# Altium footprint library STM32_Smart.PcbLib: 23 footprints (part 2 of 2)
Each footprint in its own frame and in the unit in brackets; x right, y up, seen from the top. Pads: shape width x height; smd on the part's side, far side on the other; paste and mask are expansions set on the pad; w line width, h text height; cw(c..) or ccw(c..) is an arc to the next point about the centre after c.
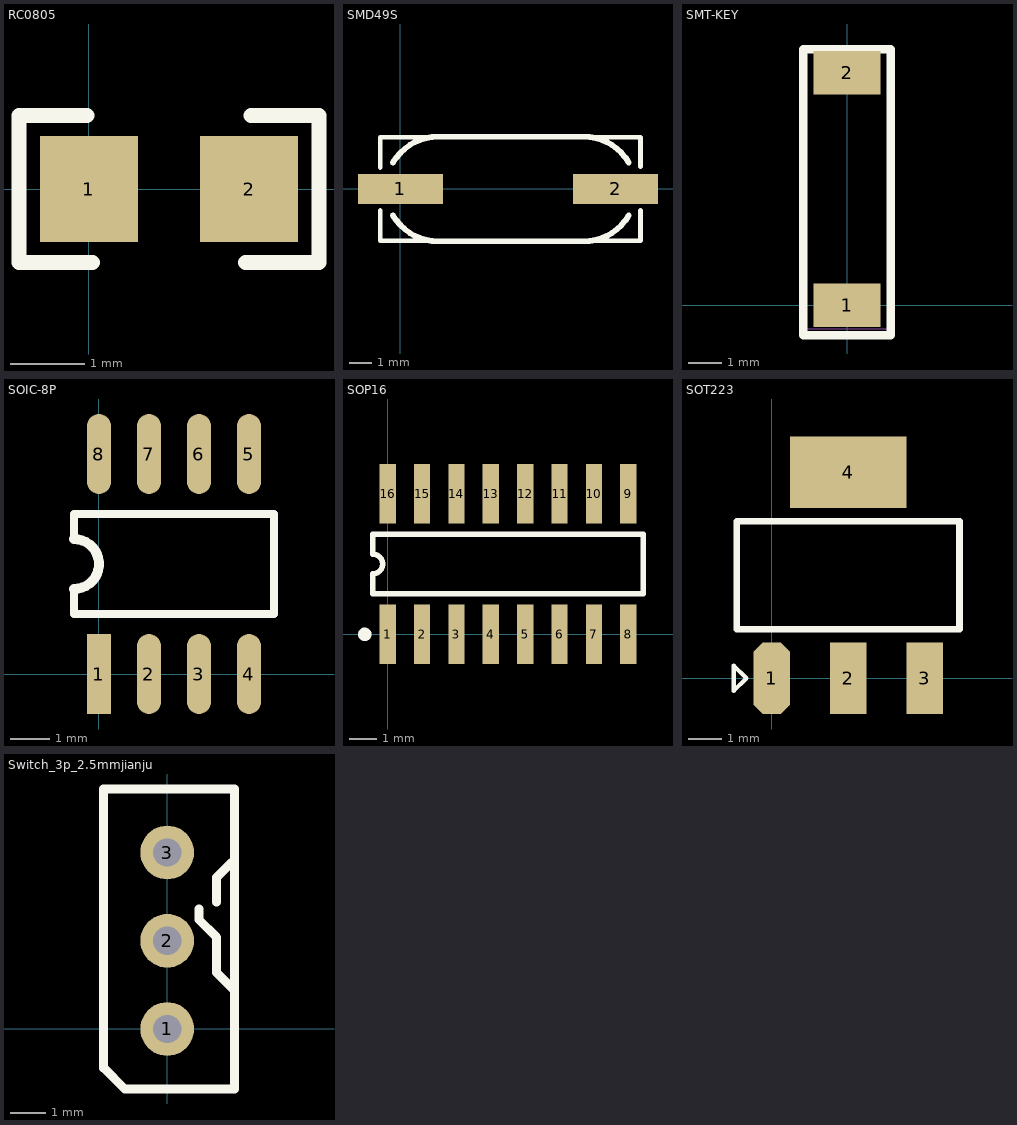
[diagram p1: the footprints below, top view; thin cyan lines are the x and y axes]

## RC0805 [mil]
pads (2):
  rect 52x56 smd: 1(0,0) 2(85,0)
Top Overlay:
  lines w8: -1,39 -37,39 -37,-39 2,-39 ; 83,-39 122,-39 122,39 86,39

## SMD49S [mil]
pads (2):
  rect 146x51 smd: 1(0,0) 2(370,0)
Top Overlay:
  lines w8: -35,-37 -35,-89 413,-89 413,-37 ; -35,37 -35,89 413,89 413,38
  lines w10: -12.57,-45.63 ccw(c65,0) 65,-90 315,-90 ccw(c315,0) 392.57,-45.63 ; -12.57,45.63 cw(c65,0) 65,90 ; 55,90 315,90 cw(c315,0) 392.57,45.63

## SMT-KEY [mm]
pads (2):
  rect 2x1.3 smd paste+0 mask+0.2: 1(0,0) 2(0,6.9)
Top Overlay:
  lines w0.254: -1.3,-0.888 1.3,-0.888 1.3,7.6 -1.3,7.6 -1.3,-0.888
Mechanical 1:
  lines w0.025: -1.3,-0.695 1.3,-0.695 1.3,7.6 -1.3,7.6 -1.3,-0.695
Mechanical 2:
  lines w0.003: -1.3,5.405 -1.3,-0.695 1.3,-0.695 1.3,5.405

## SOIC-8P [mil]
pads (8):
  rect 24x80 smd mask+3: 1(0,0)
  oval 24x80 smd mask+3: 2(50,0) 3(100,0) 4(150,0) 5(150,220) 6(100,220) 7(50,220) 8(0,220)
Top Overlay:
  lines w8: -25,85 -25,60 175,60 175,160 -25,160 -25,135
  lines w10: -25,85 ccw(c-25,110) -25,135

## SOP16 [mm]
pads (16):
  rect 0.6x2.2 smd: 1(0,0) 2(1.27,0) 3(2.54,0) 4(3.81,0) 5(5.08,0) 6(6.35,0) 7(7.62,0) 8(8.89,0) 9(8.89,5.2) 10(7.62,5.2) 11(6.35,5.2) 12(5.08,5.2) 13(3.81,5.2) 14(2.54,5.2) 15(1.27,5.2) 16(0,5.2)
Top Overlay:
  circle w0.25: c-0.85,0 r0.125
  lines w0.2: -0.555,1.5 9.445,1.5 9.445,3.7 -0.555,3.7 -0.555,2.967 cw(c-0.555,2.6) -0.555,2.233 -0.555,1.5

## SOT223 [mm]
pads (4):
  oct 1.1x2.15 smd: 1(0,0)
  rect 1.1x2.15 smd: 2(2.3,0) 3(4.6,0)
  rect 3.5x2.15 smd: 4(2.3,6.2)
Top Overlay:
  lines w0.127: -1.143,-0.381 -0.762,0 -1.143,0.381 -1.143,-0.381
  lines w0.2: -1.05,1.475 -1.05,4.725 5.65,4.725 5.65,1.475 -1.05,1.475

## Switch_3p_2.5mmjianju [mil]
pads (3):
  round 60 hole 31.5: 1(0,0) 2(0,98.43) 3(0,196.85)
Top Overlay:
  lines w10: 35.43,133.86 35.43,122.05 55.12,102.36 55.12,70.87 55.12,62.99 74.8,43.31 ; 55.12,141.73 55.12,169.29 70.87,185.04 ; 70.87,185.04 70.87,185.04 ; -70.87,-43.31 -47.24,-66.93 74.8,-66.93 74.8,267.72 -70.87,267.72 -70.87,-43.31